# Altium schematic symbol library Resistors.SchLib: 3 symbols
Pins are listed as number, name and electrical type; pins without a type are passive.

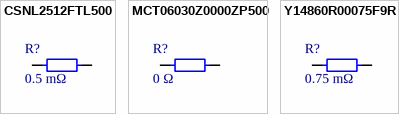
[diagram p0: symbols CSNL2512FTL500 to Y14860R00075F9R]

## CSNL2512FTL500
designator R?, comment 0.5 mΩ
0.5 mOhms ±1% 3W Chip Resistor 2512 (6332 Metric) Current Sense, Moisture Resistant Metal Element; Manufacturer: Stackpole Electronics Inc; Manufacturer Part Number: CSNL2512FTL500; Eco Plan: RoHS & Green; Maximum Working Voltage: (P×R)^(1/2); Temperature Coefficient: ±50ppm/°C; Category: SMD Current Sense Resistor; Composition: Metal Element; Datasheet: https://www.seielect.com/catalog/SEI-CSNL.pdf; Operating Temperature: -55°C ~ 170°C; Package / Case: 2512 (6332 Metric); Power (Watts): 3W; Ratings: AEC-Q200; Resistance: 0.5 mΩ; Series: CSNL; Supplier 1: Digi-Key; Supplier Part Number 1: CSNL2512FTL500CT-ND; Tolerance: ±1%
footprint CSNL2512FTL500 (0.5 mOhms ±1% 3W Chip Resistor 2512 (6332 Metric) Current Sense, Moisture Resistant Metal Element)
pins: 1 "Resistor_Pin_01", 2 "Resistor_Pin_02"
2 alternate drawings of the same symbol

## MCT06030Z0000ZP500
designator R?, comment 0 Ω
0 Ohms Jumper 0.1W, 1/10W Chip Resistor 0603 (1608 Metric) Anti-Sulfur Thin Film; Manufacturer: Vishay; Manufacturer Part Number: MCT06030Z0000ZP500; Eco Plan: RoHS & Green; Maximum Working Voltage: 25V; Temperature Coefficient: ±10ppm/K; Category: 0 Ohm Jumper Resistor; Composition: Thin Film; Datasheet: https://www.vishay.com/docs/28700/mcx0x0xpre.pdf; Operating Temperature: -55°C ~ 155°C; Package / Case: 0603 (1608 Metric); Power (Watts): 0.1W; Ratings: -; Resistance: 0 Ω; Series: MCT - Precision; Supplier 1: Digi-Key; Supplier Part Number 1: MCT0603-0.0-ZZCT-ND; Tolerance: Jumper
footprint MCT06030Z0000ZP500 (0 Ohms Jumper 0.1W, 1/10W Chip Resistor 0603 (1608 Metric) Anti-Sulfur Thin Film)
pins: 1 "Resistor_Pin_01", 2 "Resistor_Pin_02"
2 alternate drawings of the same symbol

## Y14860R00075F9R
designator R?, comment 0.75 mΩ
0.75 mOhms ±1% 10W Chip Resistor Nonstandard Automotive AEC-Q200, Current Sense, Non-Inductive Metal Element; Manufacturer: VPG Foil Resistors; Manufacturer Part Number: Y14860R00075F9R; Eco Plan: RoHS & Green; Maximum Working Voltage: (P×R)^(1/2); Temperature Coefficient: ±75ppm/°C; Category: SMD Current Sense Resistor; Composition: Metal Element; Datasheet: https://foilresistors.com/docs/63530/CSM5930A.pdf; Operating Temperature: -65°C ~ 170°C; Package / Case: Nonstandard; Power (Watts): 10W; Ratings: AEC-Q200; Resistance: 0.75 mΩ; Series: CSM5930A; Supplier 1: Digi-Key; Supplier Part Number 1: 804-Y14860R00075F9RCT-ND; Tolerance: ±1%
footprint Y14860R00075F9R (0.75 mOhms ±1% 10W Chip Resistor Nonstandard Automotive AEC-Q200, Current Sense, Non-Inductive Metal Element)
pins: 1 "Resistor_Pin_01", 2 "Resistor_Pin_02"
2 alternate drawings of the same symbol